# Altium schematic symbol library Schlib1.SchLib: 1 symbol
Pins are listed as number, name and electrical type; pins without a type are passive.

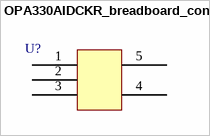
[diagram p0: symbol OPA330AIDCKR_breadboard_conn]

## OPA330AIDCKR_breadboard_conn
designator U?
footprint OPA330AIDCKR_breadboard_conn
pins: 1, 2, 3, 4, 5